# EAGLE library part FH19C-50S-0.5SH (library SSI)
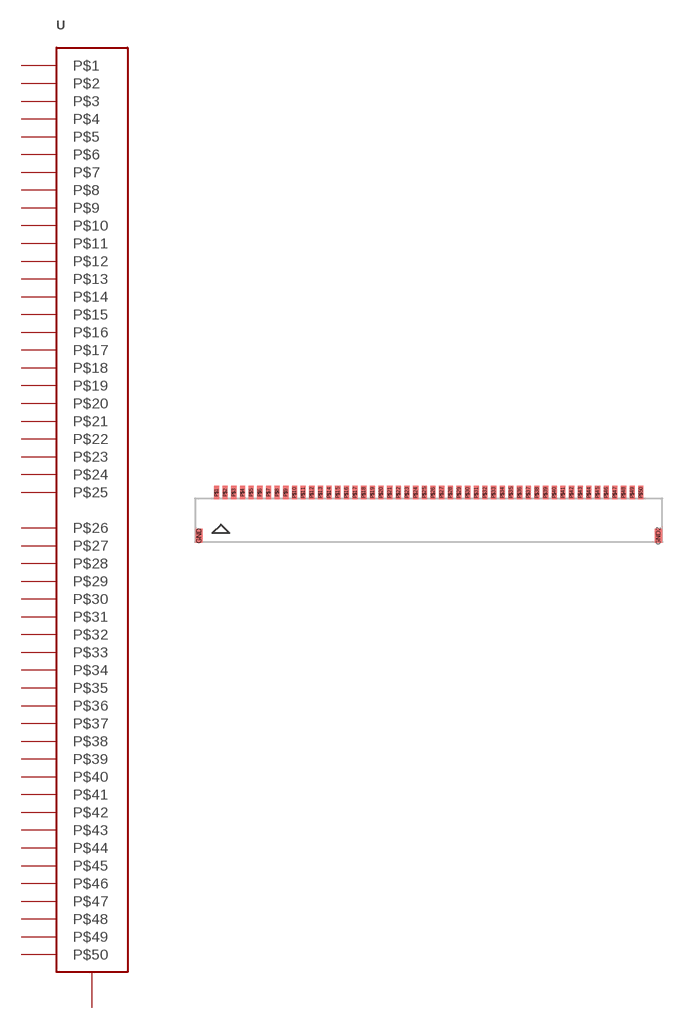
[diagram p25: symbol with the pads of FH19C-50S-0.5SH; footprint FH19C-50S-0.5SH]

Designator prefix -

## FH19C-50S-0.5SH  [FH19C-50S-0.5SH]
GND  GND
GND2  GND
P$1  P$1
P$2  P$2
P$3  P$3
P$4  P$4
P$5  P$5
P$6  P$6
P$7  P$7
P$8  P$8
P$9  P$9
P$10  P$10
P$11  P$11
P$12  P$12
P$13  P$13
P$14  P$14
P$15  P$15
P$16  P$16
P$17  P$17
P$18  P$18
P$19  P$19
P$20  P$20
P$21  P$21
P$22  P$22
P$23  P$23
P$24  P$24
P$25  P$25
P$26  P$26
P$27  P$27
P$28  P$28
P$29  P$29
P$30  P$30
P$31  P$31
P$32  P$32
P$33  P$33
P$34  P$34
P$35  P$35
P$36  P$36
P$37  P$37
P$38  P$38
P$39  P$39
P$40  P$40
P$41  P$41
P$42  P$42
P$43  P$43
P$44  P$44
P$45  P$45
P$46  P$46
P$47  P$47
P$48  P$48
P$49  P$49
P$50  P$50

## Footprint FH19C-50S-0.5SH (pad centres in mm)
smd 0.4 x 0.8: GND -13.25,-0.92; GND2 13.25,-0.92
smd 0.3 x 0.8: P$1 -12.25,1.58; P$2 -11.75,1.58; P$3 -11.25,1.58; P$4 -10.75,1.58; P$5 -10.25,1.58; P$6 -9.75,1.58; P$7 -9.25,1.58; P$8 -8.75,1.58; P$9 -8.25,1.58; P$10 -7.75,1.58; P$11 -7.25,1.58; P$12 -6.75,1.58; P$13 -6.25,1.58; P$14 -5.75,1.58; P$15 -5.25,1.58; P$16 -4.75,1.58; P$17 -4.25,1.58; P$18 -3.75,1.58; P$19 -3.25,1.58; P$20 -2.75,1.58; P$21 -2.25,1.58; P$22 -1.75,1.58; P$23 -1.25,1.58; P$24 -0.75,1.58; P$25 -0.25,1.58; P$26 0.25,1.58; P$27 0.75,1.58; P$28 1.25,1.58; P$29 1.75,1.58; P$30 2.25,1.58; P$31 2.75,1.58; P$32 3.25,1.58; P$33 3.75,1.58; P$34 4.25,1.58; P$35 4.75,1.58; P$36 5.25,1.58; P$37 5.75,1.58; P$38 6.25,1.58; P$39 6.75,1.58; P$40 7.25,1.58; P$41 7.75,1.58; P$42 8.25,1.58; P$43 8.75,1.58; P$44 9.25,1.58; P$45 9.75,1.58; P$46 10.25,1.58; P$47 10.75,1.58; P$48 11.25,1.58; P$49 11.75,1.58; P$50 12.25,1.58